# Altium integrated library ALTIUM-TBL_7_62_2164_HORIZONTAL_ENTRY_W_RISING_CAGE_CLAMP_6912164100xx-rev17a.IntLib: 34 symbols
Pins are listed as number, name and electrical type; pins without a type are passive.

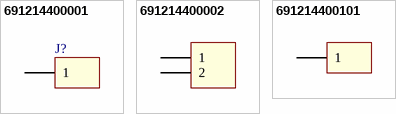
[diagram p0: symbols 691214400001 to 691214400101]

## 691214400001
designator J?
WR-TBL Serie 2144 - 7.62 mm Vertical Entry with Rising Cage Clamp, 1p; Part Number: 691214400001; Pitch: 7.62 mm; Pin Number: 1; ComponentLink1Description: Manufacturer; ComponentLink1URL: http://www.we-online.de; ComponentLink2Description: Datasheet; ComponentLink2URL: http://katalog.we-online.de/em/datasheet/6912144000xx.pdf; Published Date: March 2017; Publisher: Wurth Elektronik
footprint 691214400001 (7.62 mm Vertical Cable Entry with Rising Cage Clamp, 1 pin)
pins: 1

## 691214400002
designator J?
WR-TBL Serie 2144 - 7.62 mm Vertical Entry with Rising Cage Clamp, 2p; Part Number: 691214400002; Pitch: 7.62 mm; Pin Number: 2; ComponentLink1Description: Manufacturer; ComponentLink1URL: http://www.we-online.de; ComponentLink2Description: Datasheet; ComponentLink2URL: http://katalog.we-online.de/em/datasheet/6912144000xx.pdf; Published Date: March 2017; Publisher: Wurth Elektronik
footprint 691214400002 (7.62 mm Vertical Cable Entry with Rising Cage Clamp, 2 pins)
pins: 1, 2

## 691214400101
designator J?
WR-TBL Serie 2144 - 7.62 mm Vertical Entry with Rising Cage Clamp, 1p; Part Number: 691214400101; Pitch: 7.62 mm; Pin Number: 1; ComponentLink1Description: Manufacturer; ComponentLink1URL: http://www.we-online.de; ComponentLink2Description: Datasheet; ComponentLink2URL: http://katalog.we-online.de/em/datasheet/6912144000xx.pdf; Published Date: March 2017; Publisher: Wurth Elektronik
footprint 691214400101 (7.62 mm Vertical Cable Entry with Rising Cage Clamp, 1 pin)
pins: 1


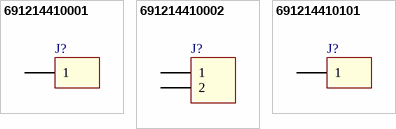
[diagram p1: symbols 691214410001 to 691214410101]

## 691214410001
designator J?
WR-TBL Serie 2144 - 7.62 mm Horizontal Entry with Rising Cage Clamp, 1p; Part Number: 691214410001; Pitch: 7.62 mm; Pin Number: 1; ComponentLink1Description: Manufacturer; ComponentLink1URL: http://www.we-online.de; ComponentLink2Description: Datasheet; ComponentLink2URL: http://katalog.we-online.de/em/datasheet/6912144100xx.pdf; Published Date: March 2017; Publisher: Wurth Elektronik
footprint 691214410001 (7.62 mm Horizontal Entry w. Rising Cage Clamp, 01p)
pins: 1

## 691214410002
designator J?
WR-TBL Serie 2144 - 7.62 mm Horizontal Entry with Rising Cage Clamp, 2p; Part Number: 691214410002; Pitch: 7.62 mm; Pin Number: 2; ComponentLink1Description: Manufacturer; ComponentLink1URL: http://www.we-online.de; ComponentLink2Description: Datasheet; ComponentLink2URL: http://katalog.we-online.de/em/datasheet/6912144100xx.pdf; Published Date: March 2017; Publisher: Wurth Elektronik
footprint 691214410002 (7.62 mm Horizontal Entry w. Rising Cage Clamp, 02p)
pins: 1, 2

## 691214410101
designator J?
WR-TBL Serie 2144 - 7.62 mm Horizontal Entry with Rising Cage Clamp, 1p; Part Number: 691214410101; Pitch: 7.62 mm; Pin Number: 1; ComponentLink1Description: Manufacturer; ComponentLink1URL: http://www.we-online.de; ComponentLink2Description: Datasheet; ComponentLink2URL: http://katalog.we-online.de/em/datasheet/6912144100xx.pdf; Published Date: March 2017; Publisher: Wurth Elektronik
footprint 691214410101 (7.62 mm Horizontal Entry w. Rising Cage Clamp, 01p)
pins: 1


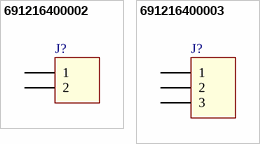
[diagram p2: symbols 691216400002 to 691216400003]

## 691216400002
designator J?
WR-TBL Serie 2164 - 7.62 mm Vertical Entry with Rising Cage Clamp, 2p; Part Number: 691216400002; Pitch: 7.62 mm; Pin Number: 2; ComponentLink1Description: Manufacturer; ComponentLink1URL: http://www.we-online.de; ComponentLink2Description: Datasheet; ComponentLink2URL: http://katalog.we-online.de/em/datasheet/691216400002.pdf; Published Date: March 2017; Publisher: Wurth Elektronik
footprint 691216400002 (Vertical Cable Entry with Rising Cage Clamp, pitch 7.62mm, 02p)
pins: 1, 2

## 691216400003
designator J?
WR-TBL Serie 2164 - 7.62 mm Vertical Entry with Rising Cage Clamp, 3p; Part Number: 691216400003; Pitch: 7.62 mm; Pin Number: 3; ComponentLink1Description: Manufacturer; ComponentLink1URL: http://www.we-online.de; ComponentLink2Description: Datasheet; ComponentLink2URL: http://katalog.we-online.de/em/datasheet/691216400003.pdf; Published Date: March 2017; Publisher: Wurth Elektronik
footprint 691216400003 (Vertical Cable Entry with Rising Cage Clamp, pitch 7.62mm, 03p)
pins: 1, 2, 3


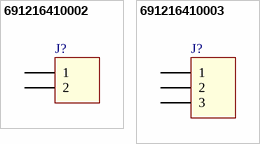
[diagram p3: symbols 691216410002 to 691216410003]

## 691216410002
designator J?
WR-TBL Serie 2164 - 7.62 mm Horizontal Entry with Rising Cage Clamp, 2p; Part Number: 691216410002; Pitch: 7.62 mm; Pin Number: 2; ComponentLink1Description: Manufacturer; ComponentLink1URL: http://www.we-online.de; ComponentLink2Description: Datasheet; ComponentLink2URL: http://katalog.we-online.de/em/datasheet/6912164100xx.pdf; Published Date: March 2017; Publisher: Wurth Elektronik
footprint 691216410002 (Horizontal Cable Entry with Rising Cage Clamp, pitch 7.62mm, 02p)
pins: 1, 2

## 691216410003
designator J?
WR-TBL Serie 2164 - 7.62 mm Horizontal Entry with Rising Cage Clamp, 3p; Part Number: 691216410003; Pitch: 7.62 mm; Pin Number: 3; ComponentLink1Description: Manufacturer; ComponentLink1URL: http://www.we-online.de; ComponentLink2Description: Datasheet; ComponentLink2URL: http://katalog.we-online.de/em/datasheet/6912164100xx.pdf; Published Date: March 2017; Publisher: Wurth Elektronik
footprint 691216410003 (Horizontal Cable Entry with Rising Cage Clamp, pitch 7.62mm, 03p)
pins: 1, 2, 3


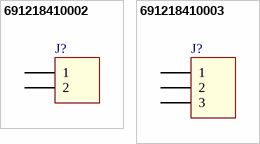
[diagram p4: symbols 691218410002 to 691218410003]

## 691218410002
designator J?
WR-TBL Serie 2184 - 7.62 mm Horizontal Entry Modular, 2p; Part Number: 691218410002; Pitch: 7.62 mm; Pin Number: 2; ComponentLink1Description: Manufacturer; ComponentLink1URL: http://www.we-online.de; ComponentLink2Description: Datasheet; ComponentLink2URL: http://katalog.we-online.de/em/datasheet/6912184100xx.pdf; Published Date: March 2017; Publisher: Wurth Elektronik
footprint 691218410002
pins: 1, 2

## 691218410003
designator J?
WR-TBL Serie 2184 - 7.62 mm Horizontal Entry Modular, 3p; Part Number: 691218410003; Pitch: 7.62 mm; Pin Number: 3; ComponentLink1Description: Manufacturer; ComponentLink1URL: http://www.we-online.de; ComponentLink2Description: Datasheet; ComponentLink2URL: http://katalog.we-online.de/em/datasheet/6912184100xx.pdf; Published Date: March 2017; Publisher: Wurth Elektronik
footprint 691218410003
pins: 1, 2, 3


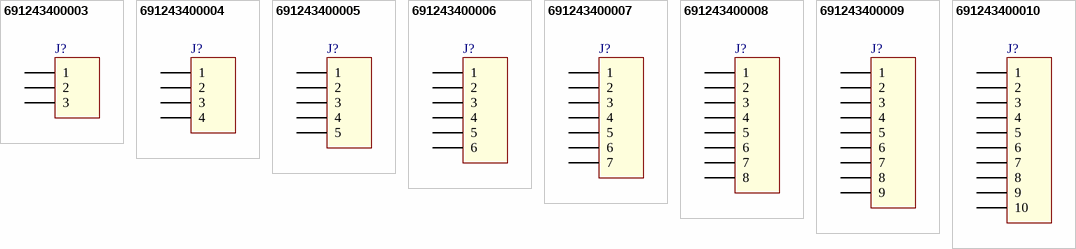
[diagram p5: symbols 691243400003 to 691243400010]

## 691243400003
designator J?
WR-TBL Serie 2434 - 7.62 mm Horizontal Entry Modular with Rising Cage Clamp, 3p; Part Number: 691243400003; Pitch: 7.62 mm; Pin Number: 3; ComponentLink1Description: Manufacturer; ComponentLink1URL: http://www.we-online.de; ComponentLink2Description: Datasheet; ComponentLink2URL: http://katalog.we-online.de/em/datasheet/6912434000xx.pdf; Published Date: March 2017; Publisher: Wurth Elektronik
footprint 691243400003 (Serie 2434 - 7.62 mm _ 3 pins)
pins: 1, 2, 3

## 691243400004
designator J?
WR-TBL Serie 2434 - 7.62 mm Horizontal Entry Modular with Rising Cage Clamp, 4p; Part Number: 691243400004; Pitch: 7.62 mm; Pin Number: 4; ComponentLink1Description: Manufacturer; ComponentLink1URL: http://www.we-online.de; ComponentLink2Description: Datasheet; ComponentLink2URL: http://katalog.we-online.de/em/datasheet/6912434000xx.pdf; Published Date: March 2017; Publisher: Wurth Elektronik
footprint 691243400004 (Serie 2434 - 7.62 mm _ 4 pins)
pins: 1, 2, 3, 4

## 691243400005
designator J?
WR-TBL Serie 2434 - 7.62 mm Horizontal Entry Modular with Rising Cage Clamp, 5p; Part Number: 691243400005; Pitch: 7.62 mm; Pin Number: 5; ComponentLink1Description: Manufacturer; ComponentLink1URL: http://www.we-online.de; ComponentLink2Description: Datasheet; ComponentLink2URL: http://katalog.we-online.de/em/datasheet/6912434000xx.pdf; Published Date: March 2017; Publisher: Wurth Elektronik
footprint 691243400005 (Serie 2434 - 7.62 mm _ 5 pins)
pins: 1, 2, 3, 4, 5

## 691243400006
designator J?
WR-TBL Serie 2434 - 7.62 mm Horizontal Entry Modular with Rising Cage Clamp, 6p; Part Number: 691243400006; Pitch: 7.62 mm; Pin Number: 6; ComponentLink1Description: Manufacturer; ComponentLink1URL: http://www.we-online.de; ComponentLink2Description: Datasheet; ComponentLink2URL: http://katalog.we-online.de/em/datasheet/6912434000xx.pdf; Published Date: March 2017; Publisher: Wurth Elektronik
footprint 691243400006 (Serie 2434 - 7.62 mm _ 6 pins)
pins: 1, 2, 3, 4, 5, 6

## 691243400007
designator J?
WR-TBL Serie 2434 - 7.62 mm Horizontal Entry Modular with Rising Cage Clamp, 7p; Part Number: 691243400007; Pitch: 7.62 mm; Pin Number: 7; ComponentLink1Description: Manufacturer; ComponentLink1URL: http://www.we-online.de; ComponentLink2Description: Datasheet; ComponentLink2URL: http://katalog.we-online.de/em/datasheet/6912434000xx.pdf; Published Date: March 2017; Publisher: Wurth Elektronik
footprint 691243400007 (Serie 2434 - 7.62 mm _ 7 pins)
pins: 1, 2, 3, 4, 5, 6, 7

## 691243400008
designator J?
WR-TBL Serie 2434 - 7.62 mm Horizontal Entry Modular with Rising Cage Clamp, 8p; Part Number: 691243400008; Pitch: 7.62 mm; Pin Number: 8; ComponentLink1Description: Manufacturer; ComponentLink1URL: http://www.we-online.de; ComponentLink2Description: Datasheet; ComponentLink2URL: http://katalog.we-online.de/em/datasheet/6912434000xx.pdf; Published Date: March 2017; Publisher: Wurth Elektronik
footprint 691243400008 (Serie 2434 - 7.62 mm _ 8 pins)
pins: 1, 2, 3, 4, 5, 6, 7, 8

## 691243400009
designator J?
WR-TBL Serie 2434 - 7.62 mm Horizontal Entry Modular with Rising Cage Clamp, 9p; Part Number: 691243400009; Pitch: 7.62 mm; Pin Number: 9; ComponentLink1Description: Manufacturer; ComponentLink1URL: http://www.we-online.de; ComponentLink2Description: Datasheet; ComponentLink2URL: http://katalog.we-online.de/em/datasheet/6912434000xx.pdf; Published Date: March 2017; Publisher: Wurth Elektronik
footprint 691243400009 (Serie 2434 - 7.62 mm _ 9 pins)
pins: 1, 2, 3, 4, 5, 6, 7, 8, 9

## 691243400010
designator J?
WR-TBL Serie 2434 - 7.62 mm Horizontal Entry Modular with Rising Cage Clamp, 10p; Part Number: 691243400010; Pitch: 7.62 mm; Pin Number: 10; ComponentLink1Description: Manufacturer; ComponentLink1URL: http://www.we-online.de; ComponentLink2Description: Datasheet; ComponentLink2URL: http://katalog.we-online.de/em/datasheet/6912434000xx.pdf; Published Date: March 2017; Publisher: Wurth Elektronik
footprint 691243400010 (Serie 2434 - 7.62 mm _ 10 pins)
pins: 1, 2, 3, 4, 5, 6, 7, 8, 9, 10


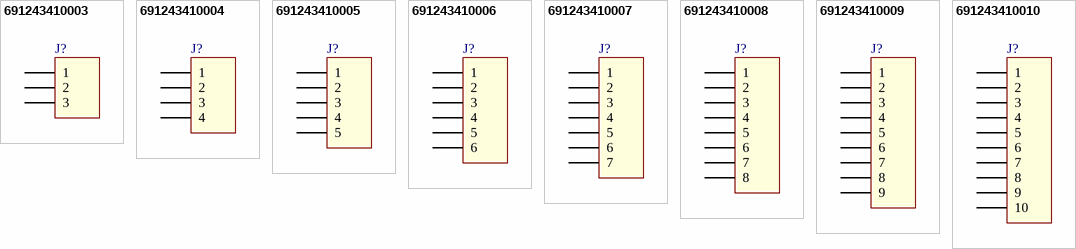
[diagram p6: symbols 691243410003 to 691243410010]

## 691243410003
designator J?
WR-TBL Serie 2434 - 7.62 mm Vertical Entry Modular with Rising Cage Clamp, 3p; Part Number: 691243410003; Pitch: 7.62 mm; Pin Number: 3; ComponentLink1Description: Manufacturer; ComponentLink1URL: http://www.we-online.de; ComponentLink2Description: Datasheet; ComponentLink2URL: http://katalog.we-online.de/em/datasheet/6912434100xx.pdf; Published Date: March 2017; Publisher: Wurth Elektronik
footprint 691243410003 (Serie 2434 - 7.62 mm _ 3 pins)
pins: 1, 2, 3

## 691243410004
designator J?
WR-TBL Serie 2434 - 7.62 mm Vertical Entry Modular with Rising Cage Clamp, 4p; Part Number: 691243410004; Pitch: 7.62 mm; Pin Number: 4; ComponentLink1Description: Manufacturer; ComponentLink1URL: http://www.we-online.de; ComponentLink2Description: Datasheet; ComponentLink2URL: http://katalog.we-online.de/em/datasheet/6912434100xx.pdf; Published Date: March 2017; Publisher: Wurth Elektronik
footprint 691243410004 (Serie 2434 - 7.62 mm _ 4 pins)
pins: 1, 2, 3, 4

## 691243410005
designator J?
WR-TBL Serie 2434 - 7.62 mm Vertical Entry Modular with Rising Cage Clamp, 5p; Part Number: 691243410005; Pitch: 7.62 mm; Pin Number: 5; ComponentLink1Description: Manufacturer; ComponentLink1URL: http://www.we-online.de; ComponentLink2Description: Datasheet; ComponentLink2URL: http://katalog.we-online.de/em/datasheet/6912434100xx.pdf; Published Date: March 2017; Publisher: Wurth Elektronik
footprint 691243410005 (Serie 2434 - 7.62 mm _ 5 pins)
pins: 1, 2, 3, 4, 5

## 691243410006
designator J?
WR-TBL Serie 2434 - 7.62 mm Vertical Entry Modular with Rising Cage Clamp, 6p; Part Number: 691243410006; Pitch: 7.62 mm; Pin Number: 6; ComponentLink1Description: Manufacturer; ComponentLink1URL: http://www.we-online.de; ComponentLink2Description: Datasheet; ComponentLink2URL: http://katalog.we-online.de/em/datasheet/6912434100xx.pdf; Published Date: March 2017; Publisher: Wurth Elektronik
footprint 691243410006 (Serie 2434 - 7.62 mm _ 6 pins)
pins: 1, 2, 3, 4, 5, 6

## 691243410007
designator J?
WR-TBL Serie 2434 - 7.62 mm Vertical Entry Modular with Rising Cage Clamp, 7p; Part Number: 691243410007; Pitch: 7.62 mm; Pin Number: 7; ComponentLink1Description: Manufacturer; ComponentLink1URL: http://www.we-online.de; ComponentLink2Description: Datasheet; ComponentLink2URL: http://katalog.we-online.de/em/datasheet/6912434100xx.pdf; Published Date: March 2017; Publisher: Wurth Elektronik
footprint 691243410007 (Serie 2434 - 7.62 mm _ 7 pins)
pins: 1, 2, 3, 4, 5, 6, 7

## 691243410008
designator J?
WR-TBL Serie 2434 - 7.62 mm Vertical Entry Modular with Rising Cage Clamp, 8p; Part Number: 691243410008; Pitch: 7.62 mm; Pin Number: 8; ComponentLink1Description: Manufacturer; ComponentLink1URL: http://www.we-online.de; ComponentLink2Description: Datasheet; ComponentLink2URL: http://katalog.we-online.de/em/datasheet/6912434100xx.pdf; Published Date: March 2017; Publisher: Wurth Elektronik
footprint 691243410008 (Serie 2434 - 7.62 mm _ 8 pins)
pins: 1, 2, 3, 4, 5, 6, 7, 8

## 691243410009
designator J?
WR-TBL Serie 2434 - 7.62 mm Vertical Entry Modular with Rising Cage Clamp, 9p; Part Number: 691243410009; Pitch: 7.62 mm; Pin Number: 9; ComponentLink1Description: Manufacturer; ComponentLink1URL: http://www.we-online.de; ComponentLink2Description: Datasheet; ComponentLink2URL: http://katalog.we-online.de/em/datasheet/6912434100xx.pdf; Published Date: March 2017; Publisher: Wurth Elektronik
footprint 691243410009 (Serie 2434 - 7.62 mm _ 9 pins)
pins: 1, 2, 3, 4, 5, 6, 7, 8, 9

## 691243410010
designator J?
WR-TBL Serie 2434 - 7.62 mm Vertical Entry Modular with Rising Cage Clamp, 10p; Part Number: 691243410010; Pitch: 7.62 mm; Pin Number: 10; ComponentLink1Description: Manufacturer; ComponentLink1URL: http://www.we-online.de; ComponentLink2Description: Datasheet; ComponentLink2URL: http://katalog.we-online.de/em/datasheet/6912434100xx.pdf; Published Date: March 2017; Publisher: Wurth Elektronik
footprint 691243410010 (Serie 2434 - 7.62 mm _ 10 pins)
pins: 1, 2, 3, 4, 5, 6, 7, 8, 9, 10


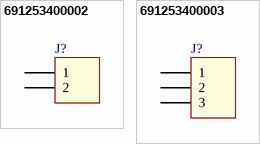
[diagram p7: symbols 691253400002 to 691253400003]

## 691253400002
designator J?
WR-TBL Serie 2534 - 7.62 mm Vertical Entry Modular with Rising Cage Clamp, 2p; Part Number: 691253400002; Pitch: 7.62 mm; Pin Number: 2; ComponentLink1Description: Manufacturer; ComponentLink1URL: http://www.we-online.de; ComponentLink2Description: Datasheet; ComponentLink2URL: http://katalog.we-online.de/em/datasheet/6912534000xx.pdf; Published Date: March 2017; Publisher: Wurth Elektronik
footprint 691253400002 (Serie 2534 - 7.62 mm _ 2 pins)
pins: 1, 2

## 691253400003
designator J?
WR-TBL Serie 2534 - 7.62 mm Vertical Entry Modular with Rising Cage Clamp, 3p; Part Number: 691253400003; Pitch: 7.62 mm; Pin Number: 3; ComponentLink1Description: Manufacturer; ComponentLink1URL: http://www.we-online.de; ComponentLink2Description: Datasheet; ComponentLink2URL: http://katalog.we-online.de/em/datasheet/6912534000xx.pdf; Published Date: March 2017; Publisher: Wurth Elektronik
footprint 691253400003 (Serie 2534 - 7.62 mm _ 3 pins)
pins: 1, 2, 3


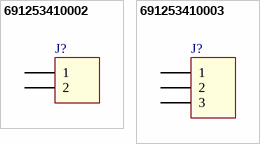
[diagram p8: symbols 691253410002 to 691253410003]

## 691253410002
designator J?
WR-TBL Serie 2534 - 7.62 mm Horizontal Entry Modular with Rising Cage Clamp, 2p; Part Number: 691253410002; Pitch: 7.62 mm; Pin Number: 2; ComponentLink1Description: Manufacturer; ComponentLink1URL: http://www.we-online.de; ComponentLink2Description: Datasheet; ComponentLink2URL: http://katalog.we-online.de/em/datasheet/6912534100XX.pdf; Published Date: March 2017; Publisher: Wurth Elektronik
footprint 691253410002 (Serie 2534 - 7.62 mm _ 2 pins)
pins: 1, 2

## 691253410003
designator J?
WR-TBL Serie 2534 - 7.62 mm Horizontal Entry Modular with Rising Cage Clamp, 3p; Part Number: 691253410003; Pitch: 7.62 mm; Pin Number: 3; ComponentLink1Description: Manufacturer; ComponentLink1URL: http://www.we-online.de; ComponentLink2Description: Datasheet; ComponentLink2URL: http://katalog.we-online.de/em/datasheet/6912534100XX.pdf; Published Date: March 2017; Publisher: Wurth Elektronik
footprint 691253410003 (Serie 2534 - 7.62 mm _ 3 pins)
pins: 1, 2, 3


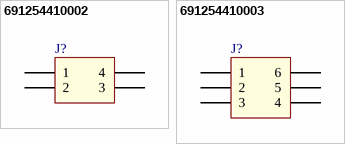
[diagram p9: symbols 691254410002 to 691254410003]

## 691254410002
designator J?
WR-TBL Serie 2544 - 7.62 mm Horizontal Entry Dual Pin with Rising Cage Clamp, 2p; Part Number: 691254410002; Pitch: 7.62 mm; Pin Number: 2; ComponentLink1Description: Manufacturer; ComponentLink1URL: http://www.we-online.de; ComponentLink2Description: Datasheet; ComponentLink2URL: http://katalog.we-online.de/em/datasheet/6912544100xx.pdf; Published Date: March 2017; Publisher: Wurth Elektronik
footprint 691254410002 (Serie 2544 - 7.62 mm _ 2 pins)
pins: 1, 2, 3, 4

## 691254410003
designator J?
WR-TBL Serie 2544 - 7.62 mm Horizontal Entry Dual Pin with Rising Cage Clamp, 3p; Part Number: 691254410003; Pitch: 7.62 mm; Pin Number: 3; ComponentLink1Description: Manufacturer; ComponentLink1URL: http://www.we-online.de; ComponentLink2Description: Datasheet; ComponentLink2URL: http://katalog.we-online.de/em/datasheet/6912544100xx.pdf; Published Date: March 2017; Publisher: Wurth Elektronik
footprint 691254410003 (Serie 2544 - 7.62 mm _ 3 pins)
pins: 1, 2, 3, 4, 5, 6